# EAGLE library part MAX17048 (library SparkFun-IC-Power)
Micropower 1-Cell Li+ ModelGauge SparkFun Products Qduino Mini <https://www.sparkfun.com/products/13614> (DEV-13614)
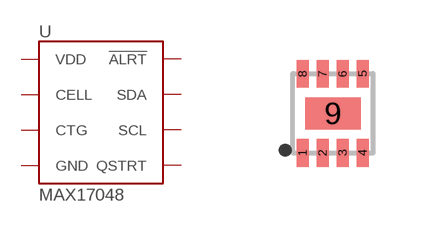
[diagram p17: symbol with the pads of DFN-8; footprint DFN-8]

Designator prefix U

## MAX17048DFN8 (PROD_ID: IC-12551; VALUE: MAX17048)  [DFN-8]
1  CTG  in
2  CELL  in
3  VDD
4  GND
5  !ALRT
6  QSTRT
7  SCL  out
8  SDA  in
9  GND

## Footprint DFN-8 (pad centres in mm)
Now follows http://pdfserv.maximintegrated.com/land_patterns/90-0065.PDF Pasted was reduced by 40% width on the center ground pad, and some amount on the other 8. Stop mask extends 135 µm wider than the pad to hit dead center of what IPC-7351 recommends.
smd 0.3 x 0.7: 1 -0.75,-0.99; 2 -0.25,-0.99; 3 0.25,-0.99; 4 0.75,-0.99; 5 0.75,0.99; 6 0.25,0.99; 7 -0.25,0.99; 8 -0.75,0.99
smd 1.38 x 0.8: 9 0,0